# EAGLE library part XR-4151 (library exar)
VOLTAGE/FREQUENCY CONVERTER
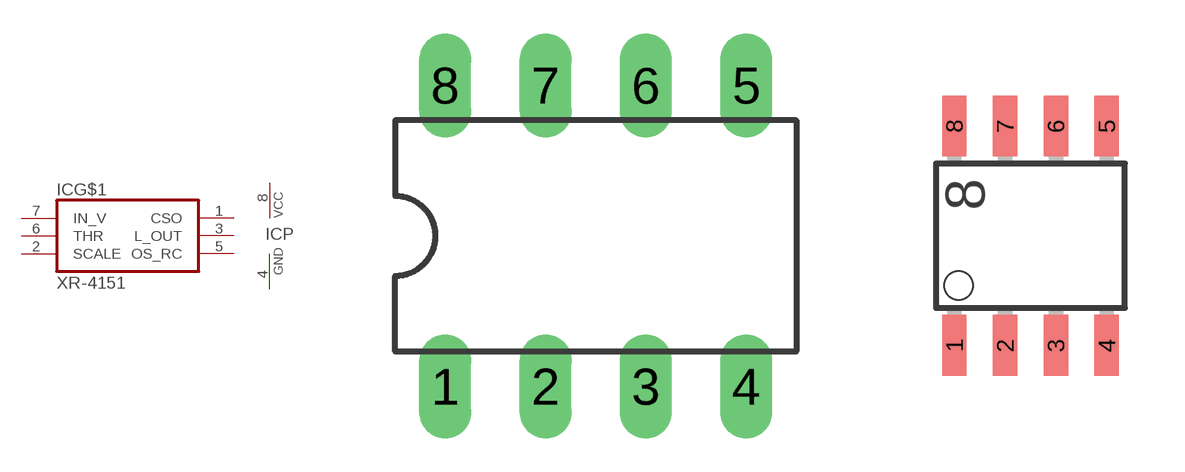
[diagram p54: symbol with the pads of DIL08; footprints DIL08, SO-08]

Designator prefix IC; gates G$1=XR-4151 P=PWRN

## XR-4151P (MPN: XR4151CP-F; OC_FARNELL: 1798672; OC_NEWARK: 24R2372)  [DIL08]
1  G$1:CSO  out
2  G$1:SCALE  pas
3  G$1:L_OUT  out
4  P:GND  pwr
5  G$1:OS_RC  pas
6  G$1:THR  in
7  G$1:IN_V  in
8  P:VCC  pwr

## XR-4151MD (OC_FARNELL: unknown; OC_NEWARK: unknown)  [SO-08]
Pads as for DIL08

## Footprint DIL08 (pad centres in mm)
Dual In Line Package
drill 0.813 long: 1 -3.81,-3.81; 2 -1.27,-3.81; 3 1.27,-3.81; 4 3.81,-3.81; 5 3.81,3.81; 6 1.27,3.81; 7 -1.27,3.81; 8 -3.81,3.81

## Footprint SO-08 (pad centres in mm)
Small Outline Package
smd 0.61 x 1.524: 1 -1.27,-2.743; 2 0,-2.743; 3 1.27,-2.743; 4 2.54,-2.743; 5 2.54,2.743; 6 1.27,2.743; 7 0,2.743; 8 -1.27,2.743